# Altium footprint library 采集板3.0增加1路模拟量2.PcbLib: 46 footprints (part 2 of 3)
Each footprint in its own frame and in the unit in brackets; x right, y up, seen from the top. Pads: shape width x height; smd on the part's side, far side on the other; paste and mask are expansions set on the pad; w line width, h text height; cw(c..) or ccw(c..) is an arc to the next point about the centre after c.
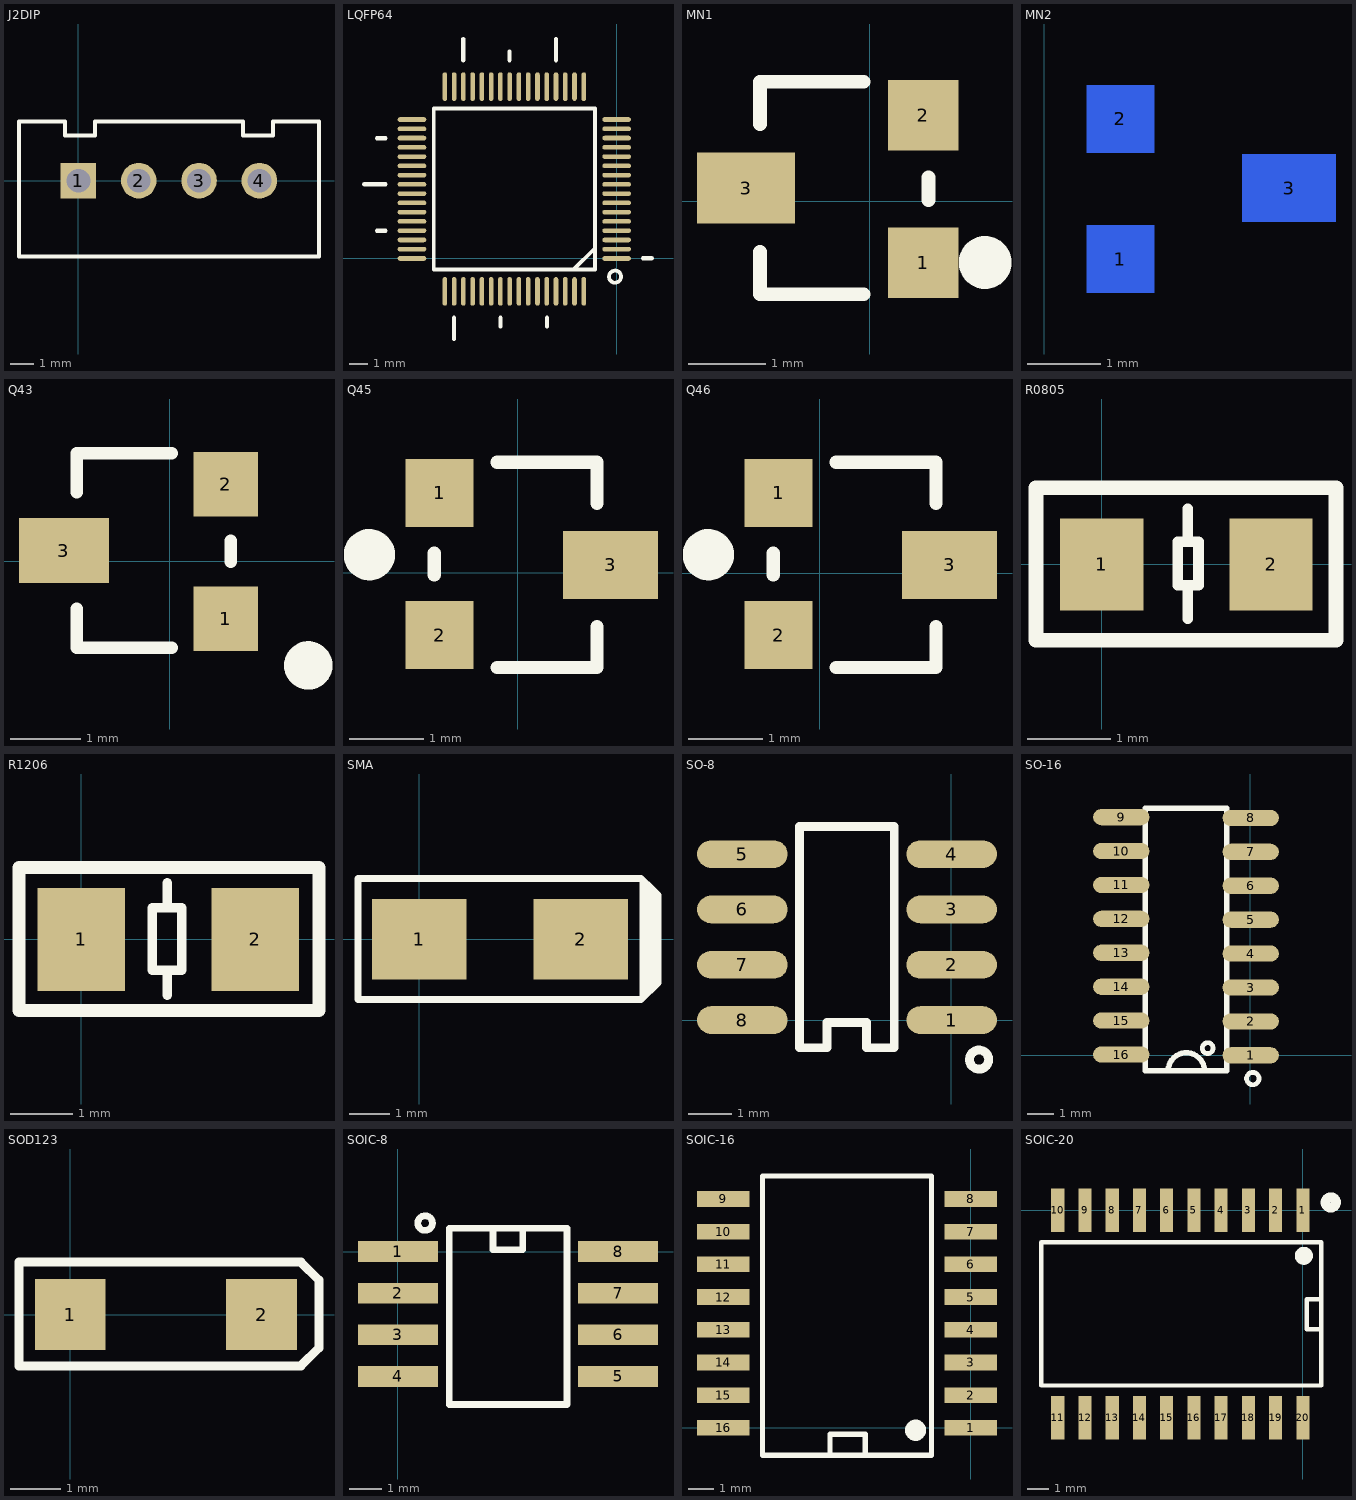
[diagram p1: the footprints below, top view; thin cyan lines are the x and y axes]

## J2DIP [mm]
pads (4):
  rect 1.5x1.5 hole 1: 1(0,0)
  round 1.5 hole 1: 2(2.54,0) 3(5.08,0) 4(7.62,0)
Top Overlay:
  lines w0.178: -2.502,-3.193 10.13,-3.193 10.13,2.492 8.198,2.492 8.198,1.902 6.927,1.902 6.927,2.492 0.701,2.492 0.701,1.902 -0.571,1.902 -0.571,2.492 -2.502,2.492 -2.502,-3.193

## LQFP64 [mm]
pads (64):
  oval 1.55x0.25 smd: 1(0,0) 2(0,0.5) 3(0,1) 4(0,1.5) 5(0,2) 6(0,2.5) 7(0,3) 8(0,3.5) 9(0,4) 10(0,4.5) 11(0,5) 12(0,5.5) 13(0,6) 14(0,6.5) 15(0,7) 16(0,7.5) 33(-11.05,7.5) 34(-11.05,7) 35(-11.05,6.5) 36(-11.05,6) 37(-11.05,5.5) 38(-11.05,5) 39(-11.05,4.5) 40(-11.05,4) 41(-11.05,3.5) 42(-11.05,3) 43(-11.05,2.5) 44(-11.05,2) 45(-11.05,1.5) 46(-11.05,1) 47(-11.05,0.5) 48(-11.05,0)
  oval 0.25x1.55 smd: 17(-1.775,9.275) 18(-2.275,9.275) 19(-2.775,9.275) 20(-3.275,9.275) 21(-3.775,9.275) 22(-4.275,9.275) 23(-4.775,9.275) 24(-5.275,9.275) 25(-5.775,9.275) 26(-6.275,9.275) 27(-6.775,9.275) 28(-7.275,9.275) 29(-7.775,9.275) 30(-8.275,9.275) 31(-8.775,9.275) 32(-9.275,9.275) 49(-9.275,-1.775) 50(-8.775,-1.775) 51(-8.275,-1.775) 52(-7.775,-1.775) 53(-7.275,-1.775) 54(-6.775,-1.775) 55(-6.275,-1.775) 56(-5.775,-1.775) 57(-5.275,-1.775) 58(-4.775,-1.775) 59(-4.275,-1.775) 60(-3.775,-1.775) 61(-3.275,-1.775) 62(-2.775,-1.775) 63(-2.275,-1.775) 64(-1.775,-1.775)
Top Overlay:
  circle w0.203: c-0.085,-0.982 r0.326
  lines w0.203: -2.323,-0.6 -1.175,0.548 ; -9.875,-0.6 -1.175,-0.6 -1.175,8.1 -9.875,8.1 -9.875,-0.6
  lines w0.229: -13.623,4 -12.473,4 ; -12.943,1.49 -12.473,1.49 ; -12.943,6.49 -12.473,6.49 ; -8.775,-4.348 -8.775,-3.198 ; -8.275,10.698 -8.275,11.848 ; -6.265,-3.668 -6.265,-3.198 ; -5.785,10.698 -5.785,11.168 ; -3.765,-3.668 -3.765,-3.198 ; -3.275,10.698 -3.275,11.848 ; 1.423,0.01 1.893,0.01

## MN1 [mil]
pads (3):
  rect 36x36 smd: 1(27.31,-31.15) 2(27.31,43.85)
  rect 50x36 smd: 3(-62.93,6.85)
Top Overlay:
  circle w15: c58.97,-31.1 r6
  lines w7: -55.76,-25.64 -55.76,-47.29 -3.01,-47.29 ; -55.76,39.34 -55.76,60.99 -3.01,60.99 ; 30.06,0.74 30.06,12.16

## MN2 [mil]
pads (3):
  rect 36x36 smd far side: 1(40.75,114.01) 2(40.75,189.01)
  rect 50x36 smd far side: 3(130.98,152.01)
Bottom Overlay:
  circle w15: c1.65,107.71 r6
  lines w7: 37.99,145.9 37.99,157.32 ; 71.06,97.87 123.82,97.87 123.82,119.52 ; 71.06,206.15 123.82,206.15 123.82,184.5

## Q43 [mil]
pads (3):
  rect 36x36 smd: 1(31.19,-32.05) 2(31.19,42.95)
  rect 50x36 smd: 3(-59.05,5.95)
Top Overlay:
  circle w15: c77.04,-58.02 r6
  lines w7: -51.88,-26.54 -51.88,-48.19 0.88,-48.19 ; -51.88,38.44 -51.88,60.09 0.88,60.09 ; 33.95,-0.16 33.95,11.26

## Q45 [mil]
pads (3):
  rect 36x36 smd: 1(-41.3,42.17) 2(-41.3,-32.83)
  rect 50x36 smd: 3(48.94,4.17)
Top Overlay:
  circle w15: c-78.31,9.58 r6
  lines w7: -44.06,-1.14 -44.06,10.28 ; -10.98,-49.98 41.77,-49.98 41.77,-28.32 ; -10.98,58.31 41.77,58.31 41.77,36.65

## Q46 [mil]
pads (3):
  rect 36x36 smd: 1(-21.77,42.48) 2(-21.77,-32.52)
  rect 50x36 smd: 3(68.47,4.48)
Top Overlay:
  circle w15: c-58.77,9.9 r6
  lines w7: -24.52,-0.83 -24.52,10.59 ; 8.55,-49.66 61.31,-49.66 61.31,-28.01 ; 8.55,58.62 61.31,58.62 61.31,36.97

## R0805 [mm]
pads (2):
  rect 1x1.1 smd: 1(0,0) 2(2.03,0)
Top Overlay:
  lines w0.127: 1.03,-0.65 1.03,-0.25 ; 1.03,0.27 1.03,0.67 ; 0.91,-0.25 0.91,0.27 1.16,0.27 1.16,-0.25 0.91,-0.25
  lines w0.178: -0.79,-0.91 -0.79,0.92 2.81,0.92 2.81,-0.91 -0.79,-0.91

## R1206 [mm]
pads (2):
  rect 1.4x1.65 smd: 1(0,0) 2(2.79,0)
Top Overlay:
  lines w0.152: 1.38,-0.9 1.38,-0.5 ; 1.38,0.51 1.38,0.91 ; 1.14,-0.5 1.14,0.51 1.61,0.51 1.61,-0.5 1.14,-0.5
  lines w0.203: -1,-1.14 -1,1.15 3.81,1.15 3.81,-1.14 -1,-1.14

## SMA [mm]
pads (2):
  rect 2.35x2 smd: 1(0,0) 2(4.01,0)
Top Overlay:
  lines w0.178: 5.72,-1.29 5.72,1.3 5.56,1.46 5.56,-1.45 5.51,-1.5 ; 5.762,-1.248 5.83,-1.18 5.83,1.19 ; 5.51,-1.5 5.93,-1.08 5.93,1.09 5.51,1.51 -1.52,1.51 -1.52,-1.5 5.51,-1.5

## SO-8 [mil]
pads (8):
  oval 82x25 smd: 1(0.5,0) 2(0.5,50) 3(0.5,100) 4(0.5,150) 5(-188.72,150) 6(-188.72,100) 7(-188.72,50) 8(-188.72,0)
Top Overlay:
  circle w8: c25.31,-35.75 r8.67
  lines w8: -137.19,-25 -137.19,175 -51.34,175 -51.34,-25 -76.34,-25 -76.34,-2.33 -112.19,-2.33 -112.19,-25 -137.19,-25

## SO-16 [mil]
pads (16):
  oval 83x24 smd: 1(1,0) 2(1,50) 3(1,100) 4(1,150) 5(1,200) 6(1,250) 7(1,300) 8(1,350) 9(-189.89,351.18) 10(-189.89,301.18) 11(-189.89,251.18) 12(-189.89,201.18) 13(-189.89,151.18) 14(-189.89,101.18) 15(-189.89,51.18) 16(-189.89,1.18)
Top Overlay:
  circle w7: c-62.5,10.58 r8.03
  circle w7: c4.03,-34.3 r9.13
  lines w8: -120.77,-22.89 cw(c-94,-22.89) -67.23,-22.89 ; -154.63,-22.89 -34.55,-22.89 -34.55,364.52 -154.63,364.52 -154.63,-22.89

## SOD123 [mm]
pads (2):
  rect 1.4x1.4 smd: 1(0,0) 2(3.79,0)
Top Overlay:
  lines w0.178: -1.02,-1.02 -1.02,1.04 4.57,1.04 4.93,0.68 4.93,-0.66 4.57,-1.02 -1.02,-1.02

## SOIC-8 [mil]
pads (8):
  rect 96x25 smd: 1(0,0) 2(0,-50) 3(0,-100) 4(0,-150) 5(264.57,-150) 6(264.57,-100) 7(264.57,-50) 8(264.57,0)
Top Overlay:
  circle w8: c32.68,34.25 r8.8
  lines w8: 114.17,27.95 114.17,2.36 150,2.36 150,27.95 ; 61.81,-183.86 61.81,27.95 203.15,27.95 203.15,-183.86 61.81,-183.86

## SOIC-16 [mil]
pads (16):
  rect 80x24 smd: 1(0,0) 2(0,50) 3(0,100) 4(0,150) 5(0,200) 6(0,250) 7(0,300) 8(0,350) 9(-378.8,350) 10(-378.8,300) 11(-378.8,250) 12(-378.8,200) 13(-378.79,150) 14(-378.8,100) 15(-378.79,50) 16(-378.8,0)
Top Overlay:
  circle w18: c-84.48,-3.74 r7.26
  lines w8: -215.58,-41.93 -215.58,-10.04 -161.64,-10.04 -161.64,-41.93 ; -318.73,-41.93 -60.07,-41.93 -60.07,385.24 -318.73,385.24 -318.73,-41.93

## SOIC-20 [mil]
pads (20):
  rect 24x80 smd: 1(0,0) 2(-50,0) 3(-100,0) 4(-150,0) 5(-200,0) 6(-250,0) 7(-300,0) 8(-350,0) 9(-400,0) 10(-450,0) 11(-450,-380.73) 12(-400,-380.73) 13(-350,-380.73) 14(-300,-380.73) 15(-250,-380.73) 16(-200,-380.73) 17(-150,-380.73) 18(-100,-380.73) 19(-50,-380.73) 20(0,-380.73)
Top Overlay:
  circle w18: c1.87,-83.48 r7.5
  circle w18: c51.4,14.56 r9.52
  lines w8: 33.76,-218.52 6.99,-218.52 6.99,-163.4 33.76,-163.4 ; -480.41,-321.67 33.76,-321.67 33.76,-58.67 -480.41,-58.67 -480.41,-321.67